# Altium schematic symbol library Library_ugo.SchLib: 29 symbols
Pins are listed as number, name and electrical type; pins without a type are passive.

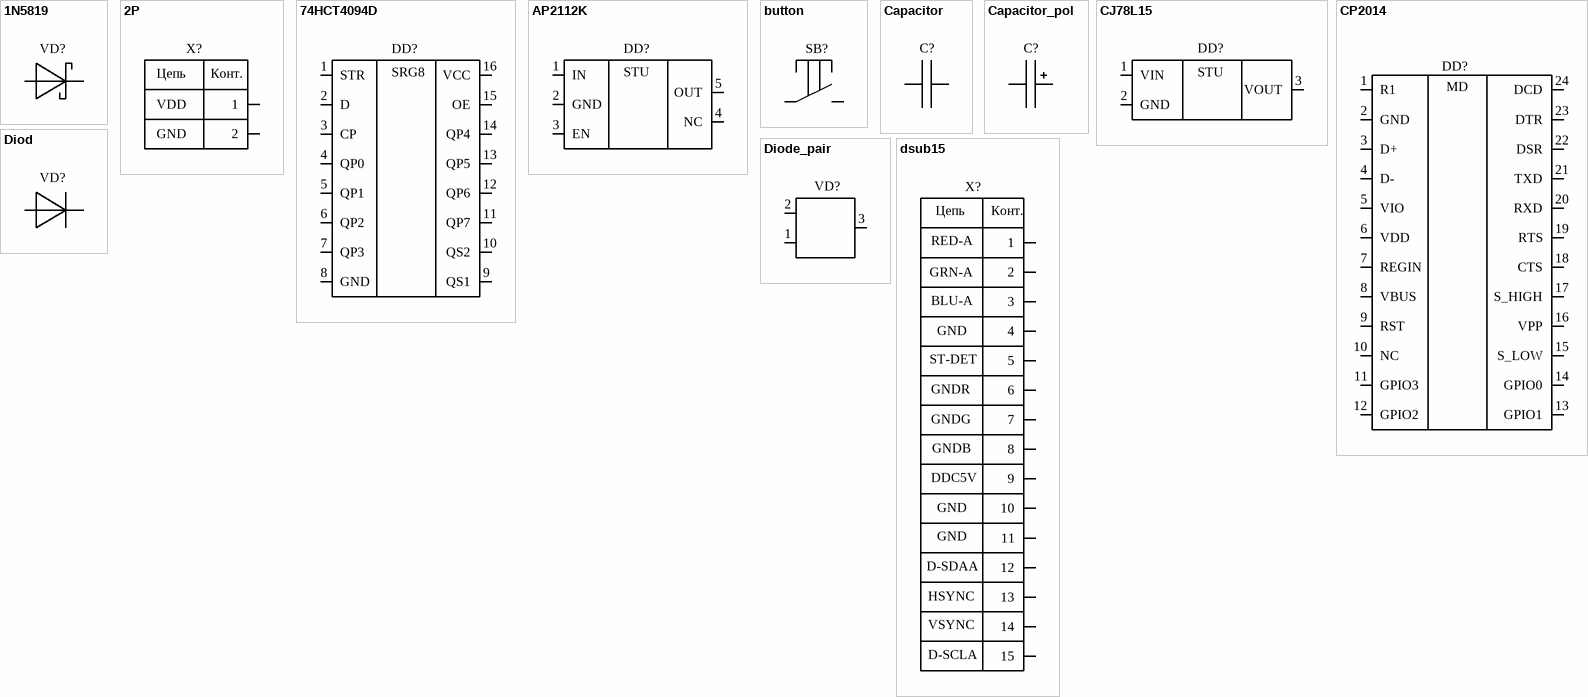
[diagram p0: symbols 1N5819 to dsub15]

## 1N5819
designator VD?  (value not drawn)
footprint SOD3715X145N
pins: 1 A, 2 B

## 2P
designator X?  (value not drawn)
footprint 2P
pins: 1, 2
text: Цепь; Конт.; VDD; GND

## 74HCT4094D
designator DD?  (value not drawn)
footprint SOIC127P1030X265-16N
pins: 1 STR, 2 D, 3 CP, 4 QP0, 5 QP1, 6 QP2, 7 QP3, 8 GND, 9 QS1, 10 QS2, 11 QP7, 12 QP6, 13 QP5, 14 QP4, 15 OE, 16 VCC
text: SRG8

## AP2112K
designator DD?  (value not drawn)
footprint SOT95P280X145-5N
pins: 1 IN, 2 GND, 3 EN, 4 NC, 5 OUT
text: STU

## button
designator SB?  (value not drawn)
footprint SW_147873-1
pins: 1, 2

## Capacitor
designator C?  (value not drawn)
footprint CAP3216X125N
pins: 1 A, 2 A

## Capacitor_pol
designator C?  (value not drawn)
footprint cap100uF_16W
footprint cap10uF_16W
footprint cap1uF_10W
footprint cap220uF_16W
pins: 1 A, 2 A

## CJ78L15
designator DD?  (value not drawn)
footprint REG_MCP1702T-3302E/MB
pins: 1 VIN, 2 GND, 3 VOUT
text: STU

## CP2014
designator DD?  (value not drawn)
footprint QFN50P400X400X80-25N
pins: 1 R1, 2 GND, 3 D+, 4 D-, 5 VIO, 6 VDD, 7 REGIN, 8 VBUS, 9 RST, 10 NC, 11 GPIO3, 12 GPIO2, 13 GPIO1, 14 GPIO0, 15 S_LOW, 16 VPP, 17 S_HIGH, 18 CTS, 19 RTS, 20 RXD, 21 TXD, 22 DSR, 23 DTR, 24 DCD
text: MD

## Diod
designator VD?  (value not drawn)
footprint SODFL1608X70N
pins: 1, 2

## Diode_pair
designator VD?  (value not drawn)
footprint kds184
footprint kds226
footprint MMBD301LT1
pins: 1, 2, 3

## dsub15
designator X?  (value not drawn)
footprint dsub15
pins: 1, 2, 3, 4, 5, 6, 7, 8, 9, 10, 11, 12, 13, 14, 15
text: Цепь; Конт.; RED-A; GRN-A; BLU-A; GND; ST-DET; GNDR; GNDG; GNDB; DDC5V; D-SDAA; HSYNC; VSYNC; D-SCLA

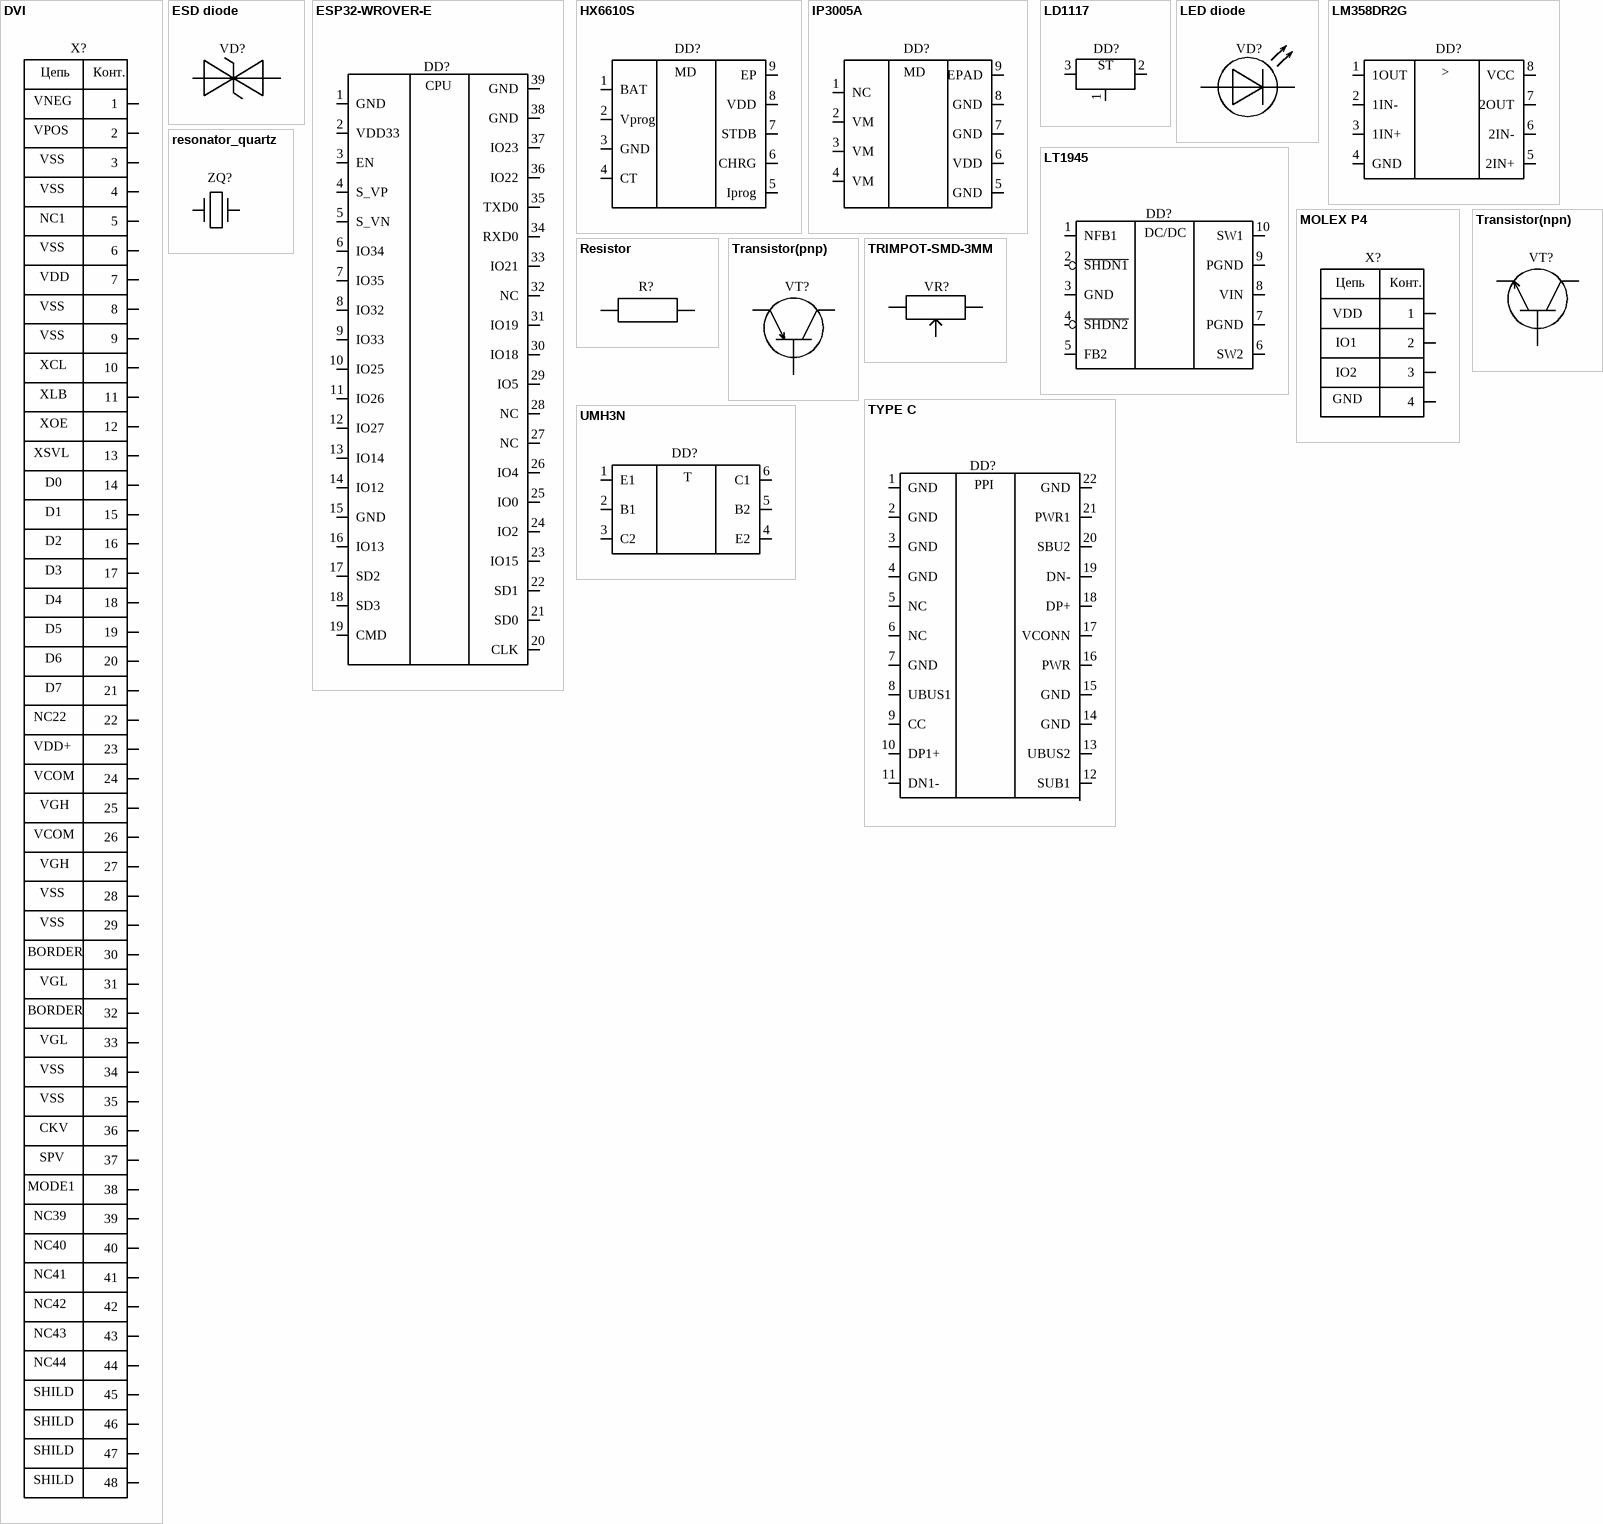
[diagram p1: symbols DVI to UMH3N]

## DVI
designator X?  (value not drawn)
footprint GCT_FFC2B28-22-G_REVA
pins: 1, 2, 3, 4, 5, 6, 7, 8, 9, 10, 11, 12, 13, 14, 15, 16, 17, 18, 19, 20, 21, 22, 23, 24, 25, 26, 27, 28, 29, 30, 31, 32, 33, 34, 35, 36, 37, 38, 39, 40, 41, 42, 43, 44, 45, 46, 47, 48
text: Цепь; Конт.; VNEG; VPOS; VSS; NC1; VDD; XCL; XLB; XOE; XSVL; D0; D1; D2; D3; D4; D5; D6; D7; NC22; VDD+; VCOM; VGH; BORDER; VGL; CKV; SPV; MODE1; NC39; NC40; NC41; NC42; NC43; NC44; SHILD

## ESD diode
designator VD?  (value not drawn)
footprint SOD523
pins: 1 A, 2 B

## ESP32-WROVER-E
designator DD?  (value not drawn)
footprint XCVR_ESP32-WROVER
pins: 1 GND, 2 VDD33, 3 EN, 4 S_VP, 5 S_VN, 6 IO34, 7 IO35, 8 IO32, 9 IO33, 10 IO25, 11 IO26, 12 IO27, 13 IO14, 14 IO12, 15 GND, 16 IO13, 17 SD2, 18 SD3, 19 CMD, 20 CLK, 21 SD0, 22 SD1, 23 IO15, 24 IO2, 25 IO0, 26 IO4, 27 NC, 28 NC, 29 IO5, 30 IO18, 31 IO19, 32 NC, 33 IO21, 34 RXD0, 35 TXD0, 36 IO22, 37 IO23, 38 GND, 39 GND
text: CPU

## HX6610S
designator DD?  (value not drawn)
footprint ESOP-8_L4.9-W3.9-P1.27-LS6.0-BL-EP
pins: 1 BAT, 2 Vprog, 3 GND, 4 CT, 5 Iprog, 6 CHRG, 7 STDB, 8 VDD, 9 EP
text: MD

## IP3005A
designator DD?  (value not drawn)
footprint ESOP-8_L4.9-W3.9-P1.27-LS6.0-BL-EP
pins: 1 NC, 2 VM, 3 VM, 4 VM, 5 GND, 6 VDD, 7 GND, 8 GND, 9 EPAD
text: MD

## LD1117
designator DD?  (value not drawn)
footprint LD1117
pins: 1 GND, 2 OUT, 3 IN
text: ST

## LED diode
designator VD?  (value not drawn)
footprint BEADC0603X33N
pins: 1 A, 2 B

## LM358DR2G
designator DD?  (value not drawn)
footprint SOIC127P599X175-8N
pins: 1 1OUT, 2 1IN-, 3 1IN+, 4 GND, 5 2IN+, 6 2IN-, 7 2OUT, 8 VCC
text: >

## LT1945
designator DD?  (value not drawn)
footprint MSOP-10_MS
pins: 1 NFB1, 2 ~{SHDN1}, 3 GND, 4 ~{SHDN2}, 5 FB2, 6 SW2, 7 PGND, 8 VIN, 9 PGND, 10 SW1
text: DC/DC

## MOLEX P4
designator X?  (value not drawn)
footprint MOLEX_15244441
pins: 1, 2, 3, 4
text: Цепь; Конт.; VDD; IO1; IO2; GND

## Resistor
designator R?  (value not drawn)
footprint res0603
pins: 1 A, 2 B

## resonator_quartz
designator ZQ?  (value not drawn)
footprint ZQ
pins: 1, 2

## Transistor(npn)
designator VT?  (value not drawn)
footprint SOT23-3P96_237X112L42X44
pins: 1 A, 2 B, 3 C

## Transistor(pnp)
designator VT?  (value not drawn)
footprint SOT23-3P96_237X112L42X44
footprint SOT95P230X110-3N
pins: 1 A, 2 B, 3 C

## TRIMPOT-SMD-3MM
designator VR?  (value not drawn)
footprint TRIMPOT-SMD-TC33X
pins: 1 IN, 2 OUT, 3 GND

## TYPE C
designator DD?  (value not drawn)
footprint QFN50P400X400X80-25N
pins: 1 GND, 2 GND, 3 GND, 4 GND, 5 NC, 6 NC, 7 GND, 8 UBUS1, 9 CC, 10 DP1+, 11 DN1-, 12 SUB1, 13 UBUS2, 14 GND, 15 GND, 16 PWR, 17 VCONN, 18 DP+, 19 DN-, 20 SBU2, 21 PWR1, 22 GND
text: PPI

## UMH3N
designator DD?  (value not drawn)
footprint SOP65P210X100-6N
pins: 1 E1, 2 B1, 3 C2, 4 E2, 5 B2, 6 C1
text: T